# EAGLE library part 6U8 (library radiotubes)
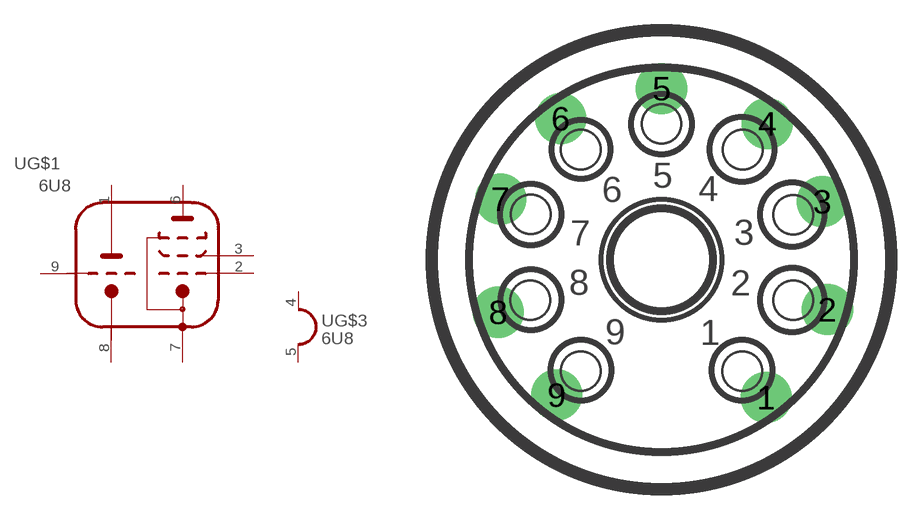
[diagram p107: symbol with the pads of NOVAL; footprint NOVAL]

Designator prefix -; gates G$1=6U8 G$3=HEATER_1

## 6U8  [NOVAL]
1  G$1:AT  pas
2  G$1:G1P  pas
3  G$1:G2P  pas
4  G$3:H1  pas
5  G$3:H2  pas
6  G$1:AP  pas
7  G$1:KP,G3,S  pas
8  G$1:KT  pas
9  G$1:G1T  pas

## Footprint NOVAL (pad centres in mm)
drill 1.422 pad 2.54: 1 5.207,-6.858; 2 8.254,-2.484; 3 8.004,2.893; 4 5.258,6.77; 5 0,8.524; 6 -5.004,7.024; 7 -8.004,3.02; 8 -8.127,-2.611; 9 -5.207,-6.731